# Altium footprint library MergenElektronik_Microcontrollers_Atmels.PcbLib: 1 footprints
Each footprint in its own frame and in the unit in brackets; x right, y up, seen from the top. Pads: shape width x height; smd on the part's side, far side on the other; paste and mask are expansions set on the pad; w line width, h text height; cw(c..) or ccw(c..) is an arc to the next point about the centre after c.
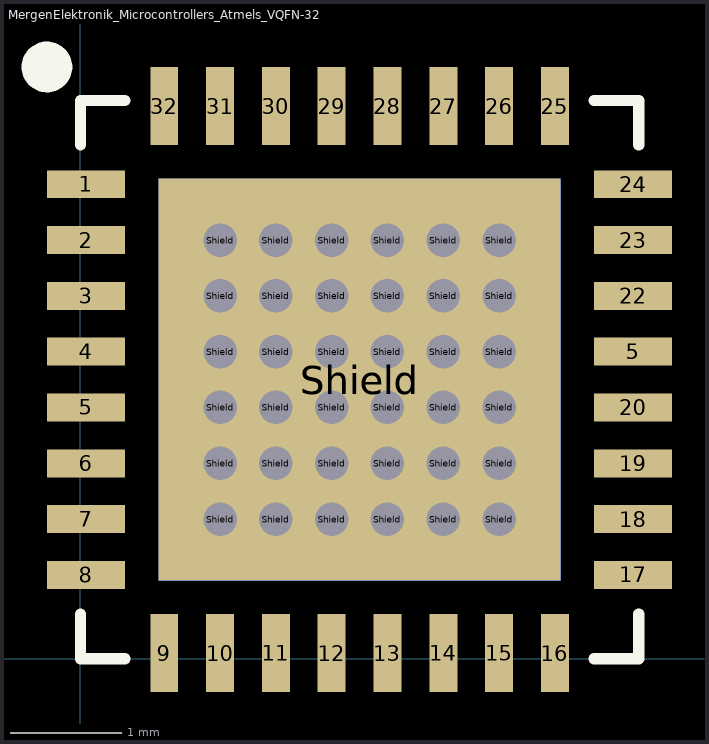
[diagram p0: the footprint, top view; thin cyan lines are the x and y axes]

## MergenElektronik_Microcontrollers_Atmels_VQFN-32 [mm] "VQFN-32"
pads (70):
  rect 0.7x0.25 smd: 1(0.05,4.25) 2(0.05,3.75) 3(0.05,3.25) 4(0.05,2.75) 5(0.05,2.25) 5(4.95,2.75) 6(0.05,1.75) 7(0.05,1.25) 8(0.05,0.75) 17(4.95,0.75) 18(4.95,1.25) 19(4.95,1.75) 20(4.95,2.25) 22(4.95,3.25) 23(4.95,3.75) 24(4.95,4.25)
  rect 0.25x0.7 smd: 9(0.75,0.05) 10(1.25,0.05) 11(1.75,0.05) 12(2.25,0.05) 13(2.75,0.05) 14(3.25,0.05) 15(3.75,0.05) 16(4.25,0.05) 25(4.25,4.95) 26(3.75,4.95) 27(3.25,4.95) 28(2.75,4.95) 29(2.25,4.95) 30(1.75,4.95) 31(1.25,4.95) 32(0.75,4.95)
  round 0.4 hole 0.3: Shield(1.25,1.25) Shield(1.25,1.75) Shield(1.25,2.25) Shield(1.25,2.75) Shield(1.25,3.25) Shield(1.25,3.75) Shield(1.75,1.25) Shield(1.75,1.75) Shield(1.75,2.25) Shield(1.75,2.75) Shield(1.75,3.25) Shield(1.75,3.75) Shield(2.25,1.25) Shield(2.25,1.75) Shield(2.25,2.25) Shield(2.25,2.75) Shield(2.25,3.25) Shield(2.25,3.75) Shield(2.75,1.25) Shield(2.75,1.75) Shield(2.75,2.25) Shield(2.75,2.75) Shield(2.75,3.25) Shield(2.75,3.75) Shield(3.25,1.25) Shield(3.25,1.75) Shield(3.25,2.25) Shield(3.25,2.75) Shield(3.25,3.25) Shield(3.25,3.75) Shield(3.75,1.25) Shield(3.75,1.75) Shield(3.75,2.25) Shield(3.75,2.75) Shield(3.75,3.25) Shield(3.75,3.75)
  rect 3.6x3.6 smd: Shield(2.5,2.5)
  rect 3.6x3.6 smd far side: Shield(2.5,2.5)
Top Overlay:
  circle w0.254: c-0.3,5.3 r0.1
  lines w0.1: 0,0.4 0,0 0.4,0 ; 0,4.6 0,5 0.4,5 ; 4.6,0 5,0 5,0.4 ; 4.6,5 5,5 5,4.6
3D body: height 1, standoff -0.01, extent -0.02,0 5,5.02